# Altium footprint library PCB - CONNECTOR - PHOENIX 1729128.PCBLIB: 1 footprints
Each footprint in its own frame and in the unit in brackets; x right, y up, seen from the top. Pads: shape width x height; smd on the part's side, far side on the other; paste and mask are expansions set on the pad; w line width, h text height; cw(c..) or ccw(c..) is an arc to the next point about the centre after c.
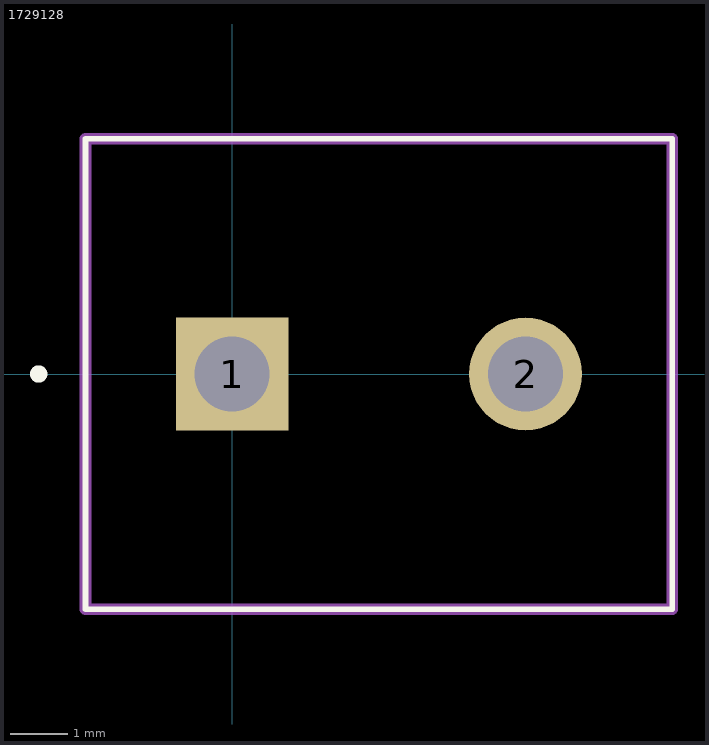
[diagram p0: the footprint, top view; thin cyan lines are the x and y axes]

## 1729128 [mm]
pads (2):
  rect 1.95x1.95 hole 1.3: 1(0,0)
  round 1.95 hole 1.3: 2(5.08,0)
Top Overlay:
  circle w0.2: c-3.35,0 r0.05
  lines w0.1: -2.54,-4.075 7.62,-4.075 7.62,4.075 -2.54,4.075 -2.54,-4.075
Top Value (Mech13):
  lines w0.2: -2.54,-4.075 7.62,-4.075 7.62,4.075 -2.54,4.075 -2.54,-4.075
3D body "1729128.stp": height 10.32, standoff -3.18, extent -2.82,-4.05 7.74,4.05